# EAGLE library part L20G20ISTR (library SamacSys_Parts)
CONSUMER MEMS Source: Datasheet <https://componentsearchengine.com/Datasheets/1/L20G20ISTR.pdf>
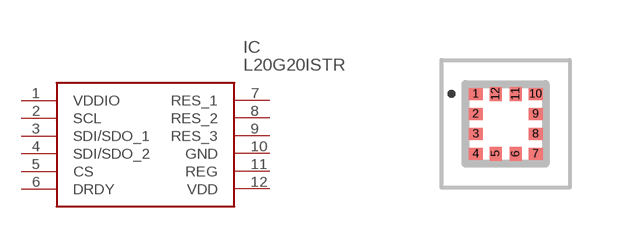
[diagram p3: symbol with the pads of IIS2MDCTR; footprint IIS2MDCTR]

Designator prefix IC

## L20G20ISTR (DESCRIPTION: CONSUMER MEMS; HEIGHT: 0.7mm; MANUFACTURER_NAME: STMicroelectronics; MANUFACTURER_PART_NUMBER: L20G20ISTR; MOUSER_PART_NUMBER: 511-L20G20ISTR; MOUSER_PRICE-STOCK: https://www.mouser.co.uk/ProductDetail/STMicroelectronics/L20G20ISTR?qs=HXFqYaX1Q2ysAhQSzqI%252BNQ%3D%3D)  [IIS2MDCTR]
1  VDDIO
2  SCL
3  SDI/SDO_1
4  SDI/SDO_2
5  CS
6  DRDY
7  RES_1
8  RES_2
9  RES_3
10  GND
11  REG
12  VDD

## Footprint IIS2MDCTR (pad centres in mm)
LGA-12 XDM
smd 0.35 x 0.3: 1 -0.75,0.75; 2 -0.75,0.25; 3 -0.75,-0.25; 4 -0.75,-0.75; 7 0.75,-0.75; 8 0.75,-0.25; 9 0.75,0.25; 10 0.75,0.75
smd 0.3 x 0.35: 5 -0.25,-0.75; 6 0.25,-0.75; 11 0.25,0.75; 12 -0.25,0.75